# Altium schematic symbol library B0505S-2W.SchLib: 1 symbol
Pins are listed as number, name and electrical type; pins without a type are passive.

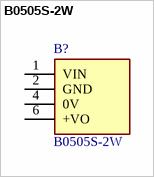
[diagram p0: symbol B0505S-2W]

## B0505S-2W
designator B?
2W isolated DC-DC converter Fixed input voltage, 5VDC, 400 mA unregulated single output; Manufacturer_Name: Mornsun Power; Geometry.Height: 10.41mm; Manufacturer_Part_Number: B0505S-2W; Mouser Part Number: *; Mouser Price/Stock: *; Arrow Part Number: *; Arrow Price/Stock: *; Datasheet Link: https://www.mornsun-power.com/html/pdf/B0505S-2WR3.html
footprint B0505S2W
pins: 1 VIN, 2 GND, 4 0V, 6 +VO